# Altium schematic symbol library Introdutor_47uH_12x12x7.SchLib: 1 symbol
Pins are listed as number, name and electrical type; pins without a type are passive.

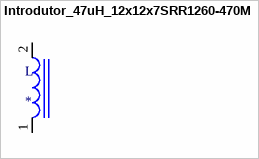
[diagram p0: symbol Introdutor_47uH_12x12x7SRR1260-470M]

## Introdutor_47uH_12x12x7SRR1260-470M
designator L
47ÂµH Shielded Wirewound Inductor 2.6A 86mOhm Max Nonstandard; MP: SRR1260-470M; MF: Bourns; Value: *; Package: Nonstandard Bourns; Price: None; SnapEDA_Link: https://www.snapeda.com/parts/SRR1260-470M/Bourns/view-part/283129/?ref=snap; Availability: Unavailable
footprint Introdutor_47uH_12x12x7
pins: 1, 2